# EAGLE library part 4X-7SEGMENT (library SM-LED)
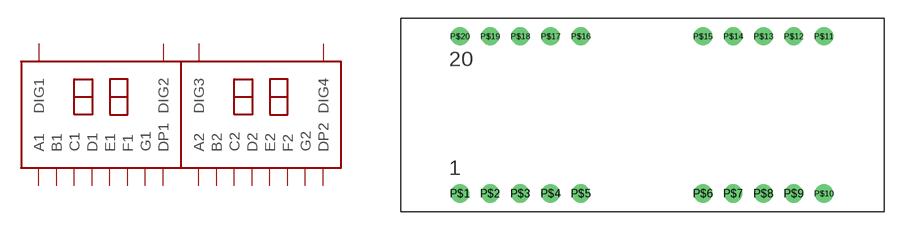
[diagram p0: symbol with the pads of CC04-41SRWA; footprint CC04-41SRWA]

Designator prefix -

## 4X-7SEGMENT  [CC04-41SRWA]
P$1  D1  in
P$2  DP1  in
P$3  E1  in
P$4  C1  in
P$5  DIG2  out
P$6  D2  in
P$7  DP2  in
P$8  E2  in
P$9  C2  in
P$10  DIG4  out
P$11  B2  in
P$12  A2  in
P$13  F2  in
P$14  G1  in
P$15  DIG3  out
P$16  B1  in
P$17  A1  in
P$18  F1  in
P$19  G2  in
P$20  DIG1  out

## Footprint CC04-41SRWA (pad centres in mm)
drill 1: P$1 4.9,1.5; P$2 7.4,1.5; P$3 9.9,1.5; P$4 12.4,1.5; P$5 14.9,1.5; P$6 25,1.5; P$7 27.5,1.5; P$8 30,1.5; P$9 32.5,1.5; P$10 35,1.5; P$11 35,14.5; P$12 32.5,14.5; P$13 30,14.5; P$14 27.5,14.5; P$15 25,14.5; P$16 14.9,14.5; P$17 12.4,14.5; P$18 9.9,14.5; P$19 7.4,14.5; P$20 4.9,14.5